# Altium schematic symbol library transistor-fet.SCHLIB: 100 symbols
Pins are listed as number, name and electrical type; pins without a type are passive.

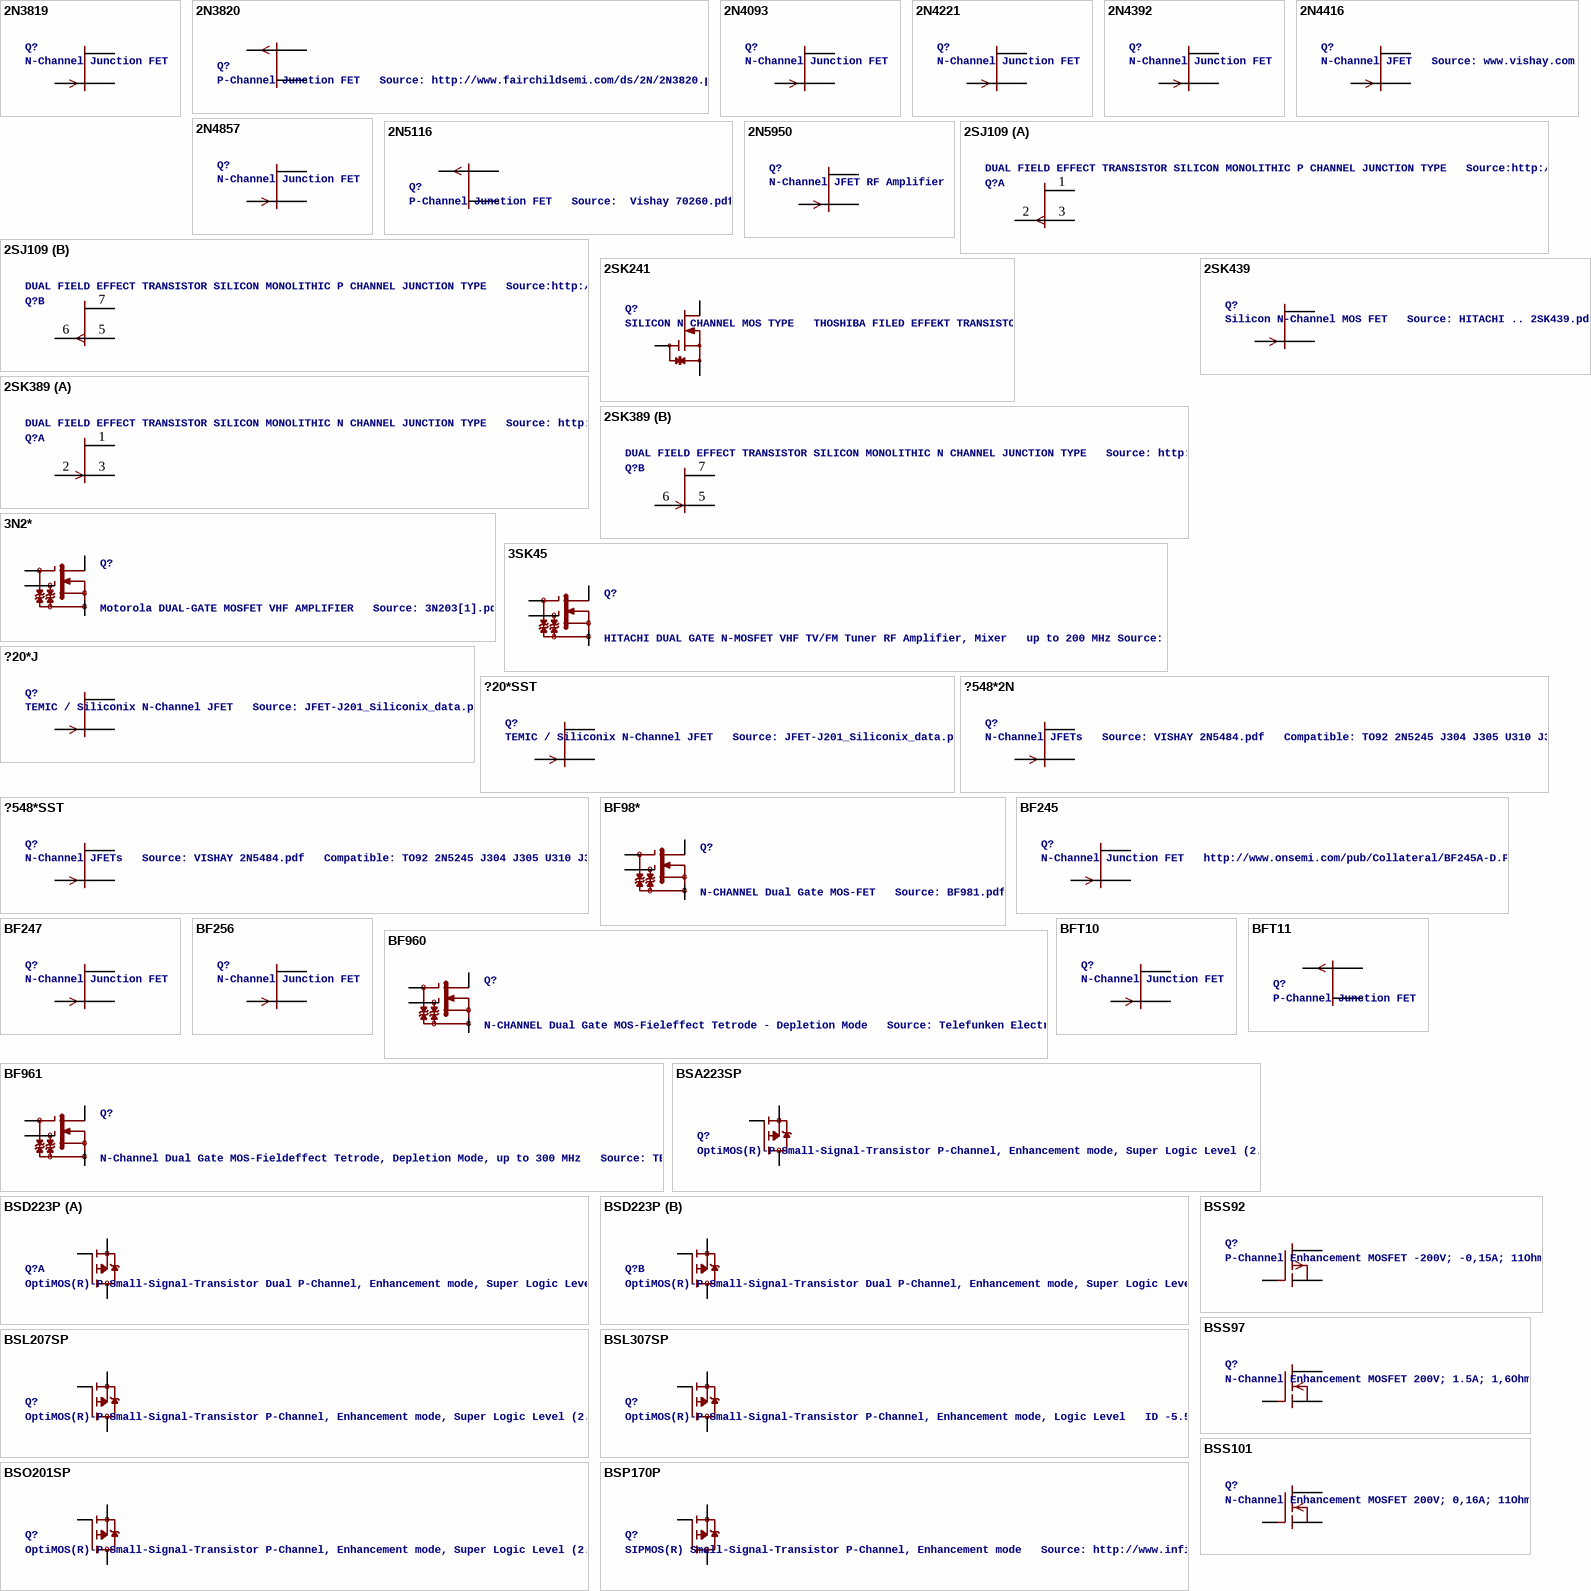
[diagram p0: symbols 2N3819 to BSS101]

## 2N3819
designator Q?, comment N-Channel Junction FET
footprint TO92
pins: 1 D, 2 G, 3 S

## 2N3820
designator Q?, comment P-Channel Junction FET   Source: http://www.fairchildsemi.com/ds/2N/2N3820.pdf
footprint TO92
pins: 1 S, 2 G, 3 D

## 2N4093
designator Q?, comment N-Channel Junction FET
footprint TO18
pins: 1 S, 2 D, 3 G

## 2N4221
designator Q?, comment N-Channel Junction FET
footprint TO72
pins: 1 D, 2 S, 3 G

## 2N4392
designator Q?, comment N-Channel Junction FET
footprint TO18
pins: 1 S, 2 D, 3 G

## 2N4416
designator Q?, comment N-Channel JFET   Source: www.vishay.com
footprint TO72
pins: 1 S, 2 D, 3 G

## 2N4857
designator Q?, comment N-Channel Junction FET
footprint TO18
pins: 1 S, 2 D, 3 G

## 2N5116
designator Q?, comment P-Channel Junction FET   Source:  Vishay 70260.pdf
footprint TO18
pins: 1 S, 2 G, 3 D

## 2N5950
designator Q?, comment N-Channel JFET RF Amplifier
footprint TO-92
pins: 1 G, 2 S, 3 D

## 2SJ109
designator Q?, comment DUAL FIELD EFFECT TRANSISTOR SILICON MONOLITHIC P CHANNEL JUNCTION TYPE   Source:http://www.datasheetcatalog.org/datasheets/270/201785_DS.pdf
footprint 2-10M1A
part A pins: 1 D, 2 G, 3 S
part B pins: 5 S, 6 G, 7 D

## 2SK241
designator Q?, comment SILICON N CHANNEL MOS TYPE   THOSHIBA FILED EFFEKT TRANSISTOR
footprint 2SK241
pins: 1 D, 2 S, 3 G

## 2SK389
designator Q?, comment DUAL FIELD EFFECT TRANSISTOR SILICON MONOLITHIC N CHANNEL JUNCTION TYPE   Source: http://pdf1.alldatasheet.com/datasheet-pdf/view/30769/TOSHIBA/2SK389.html
footprint 2-10M1A
part A pins: 1 D, 2 G, 3 S
part B pins: 5 S, 6 G, 7 D

## 2SK439
designator Q?, comment Silicon N-Channel MOS FET   Source: HITACHI .. 2SK439.pdf
footprint SPAK
pins: 1 G, 2 S, 3 D

## 3N2*
designator Q?, comment Motorola DUAL-GATE MOSFET VHF AMPLIFIER   Source: 3N203[1].pdf
footprint TO72
pins: 1 DRAIN, 2 G2, 3 G1, 4 SOURCE

## 3SK45
designator Q?, comment HITACHI DUAL GATE N-MOSFET VHF TV/FM Tuner RF Amplifier, Mixer   up to 200 MHz Source: 3SK45.pdf
footprint TO72
pins: 1 DRAIN, 2 G2, 3 G1, 4 SOURCE

## ?20*J
designator Q?, comment TEMIC / Siliconix N-Channel JFET   Source: JFET-J201_Siliconix_data.pdf
footprint TO92
pins: 1 G, 2 S, 3 D

## ?20*SST
designator Q?, comment TEMIC / Siliconix N-Channel JFET   Source: JFET-J201_Siliconix_data.pdf
footprint SOT23
pins: 1 D, 2 S, 3 G

## ?548*2N
designator Q?, comment N-Channel JFETs   Source: VISHAY 2N5484.pdf   Compatible: TO92 2N5245 J304 J305 U310 J308 J309 J310 TO72 2N4416 2N4416A 2N3823 2N4351 3N169 3N170 3N171 MFE3002 TO18 2N3796 2N3797 MFE825 Source: Motorola European Master Guide Pacge 3-59
footprint TO92-
pins: 1 G, 2 S, 3 D

## ?548*SST
designator Q?, comment N-Channel JFETs   Source: VISHAY 2N5484.pdf   Compatible: TO92 2N5245 J304 J305 U310 J308 J309 J310 TO72 2N4416 2N4416A 2N3823 2N4351 3N169 3N170 3N171 MFE3002 TO18 2N3796 2N3797 MFE825 Source: Motorola European Master Guide Pacge 3-59
footprint SOT23
pins: 1 D, 2 S, 3 G

## BF98*
designator Q?, comment N-CHANNEL Dual Gate MOS-FET   Source: BF981.pdf
footprint SOT103
pins: 1-S SOURCE, 2-D DRAIN, 3-G2 G2, 4-G1 G1

## BF245
designator Q?, comment N-Channel Junction FET   http://www.onsemi.com/pub/Collateral/BF245A-D.PDF
footprint TO92
pins: 1 D, 2 S, 3 G

## BF247
designator Q?, comment N-Channel Junction FET
footprint TO92
pins: 1 D, 2 S, 3 G

## BF256
designator Q?, comment N-Channel Junction FET
footprint TO92
pins: 1 D, 2 S, 3 G

## BF960
designator Q?, comment N-CHANNEL Dual Gate MOS-Fieleffect Tetrode - Depletion Mode   Source: Telefunken Electronic BF960.pdf
footprint TO50
pins: 1-D DRAIN, 2-S SOURCE, 3-G1 G1, 4-G2 G2

## BF961
designator Q?, comment N-Channel Dual Gate MOS-Fieldeffect Tetrode, Depletion Mode, up to 300 MHz   Source: TEMIC Semiconductors - BF691.pdf
footprint TO50
pins: 1-D DRAIN, 2-S SOURCE, 3-G1 G1, 4-G2 G2

## BFT10
designator Q?, comment N-Channel Junction FET
footprint TO92
pins: 1 D, 2 S, 3 G

## BFT11
designator Q?, comment P-Channel Junction FET
footprint TO92
pins: 1 D, 2 S, 3 G

## BSA223SP
designator Q?, comment OptiMOS(R)-P Small-Signal-Transistor P-Channel, Enhancement mode, Super Logic Level (2.5 V rated)   Source: http://www.infineon.com/upload/Document/BSA223SP_Rev1.3.pdf
footprint SC75_INFINEON
pins: 1 G, 2 D, 3 S

## BSD223P
designator Q?, comment OptiMOS(R)-P Small-Signal-Transistor Dual P-Channel, Enhancement mode, Super Logic Level (2.5 V rated)   Source: http://www.infineon.com/upload/Document/BSD223P_Rev1.3.pdf
footprint SOT363_INFINEON
part A pins: 1 S, 2 G, 6 D
part B pins: 3 D, 4 S, 5 G

## BSL207SP
designator Q?, comment OptiMOS(R)-P Small-Signal-Transistor P-Channel, Enhancement mode, Super Logic Level (2.5 V rated)   Source: http://www.infineon.com/upload/Document/BSL207SP_Rev2.01.pdf
footprint SC74_INFINEON
pins: 1 2 5 6 D, 3 G, 4 S

## BSL307SP
designator Q?, comment OptiMOS(R)-P Small-Signal-Transistor P-Channel, Enhancement mode, Logic Level   ID -5.5 A Source: http://www.infineon.com/upload/Document/BSL307SP_Rev%201.2.pdf
footprint SC74_INFINEON
pins: 1 2 5 6 D, 3 G, 4 S

## BSO201SP
designator Q?, comment OptiMOS(R)-P Small-Signal-Transistor P-Channel, Enhancement mode, Super Logic Level (2.5 V rated)   RDS(on) 8mOhm, ID -14.9 a Source: http://www.infineon.com/upload/Document/cmc_upload/documents/011/3655/BSO201SP_211201.pdf
footprint SO-8
pins: 1 2 3 S, 4 G, 5 6 7 8 D

## BSP170P
designator Q?, comment SIPMOS(R) Small-Signal-Transistor P-Channel, Enhancement mode   Source: http://www.infineon.com/upload/Document/BSP170P_Rev2.4.pdf
footprint SOT223
pins: 1 G, 2 4 D, 3 S

## BSS92
designator Q?, comment P-Channel Enhancement MOSFET -200V; -0,15A; 11Ohm
footprint TO92
pins: 1 G, 2 D, 3 S

## BSS97
designator Q?, comment N-Channel Enhancement MOSFET 200V; 1.5A; 1,6Ohm
footprint TO202
pins: 1 S, 2 D, 3 G

## BSS101
designator Q?, comment N-Channel Enhancement MOSFET 200V; 0,16A; 11Ohm
footprint TO92
pins: 1 S, 2 G, 3 D

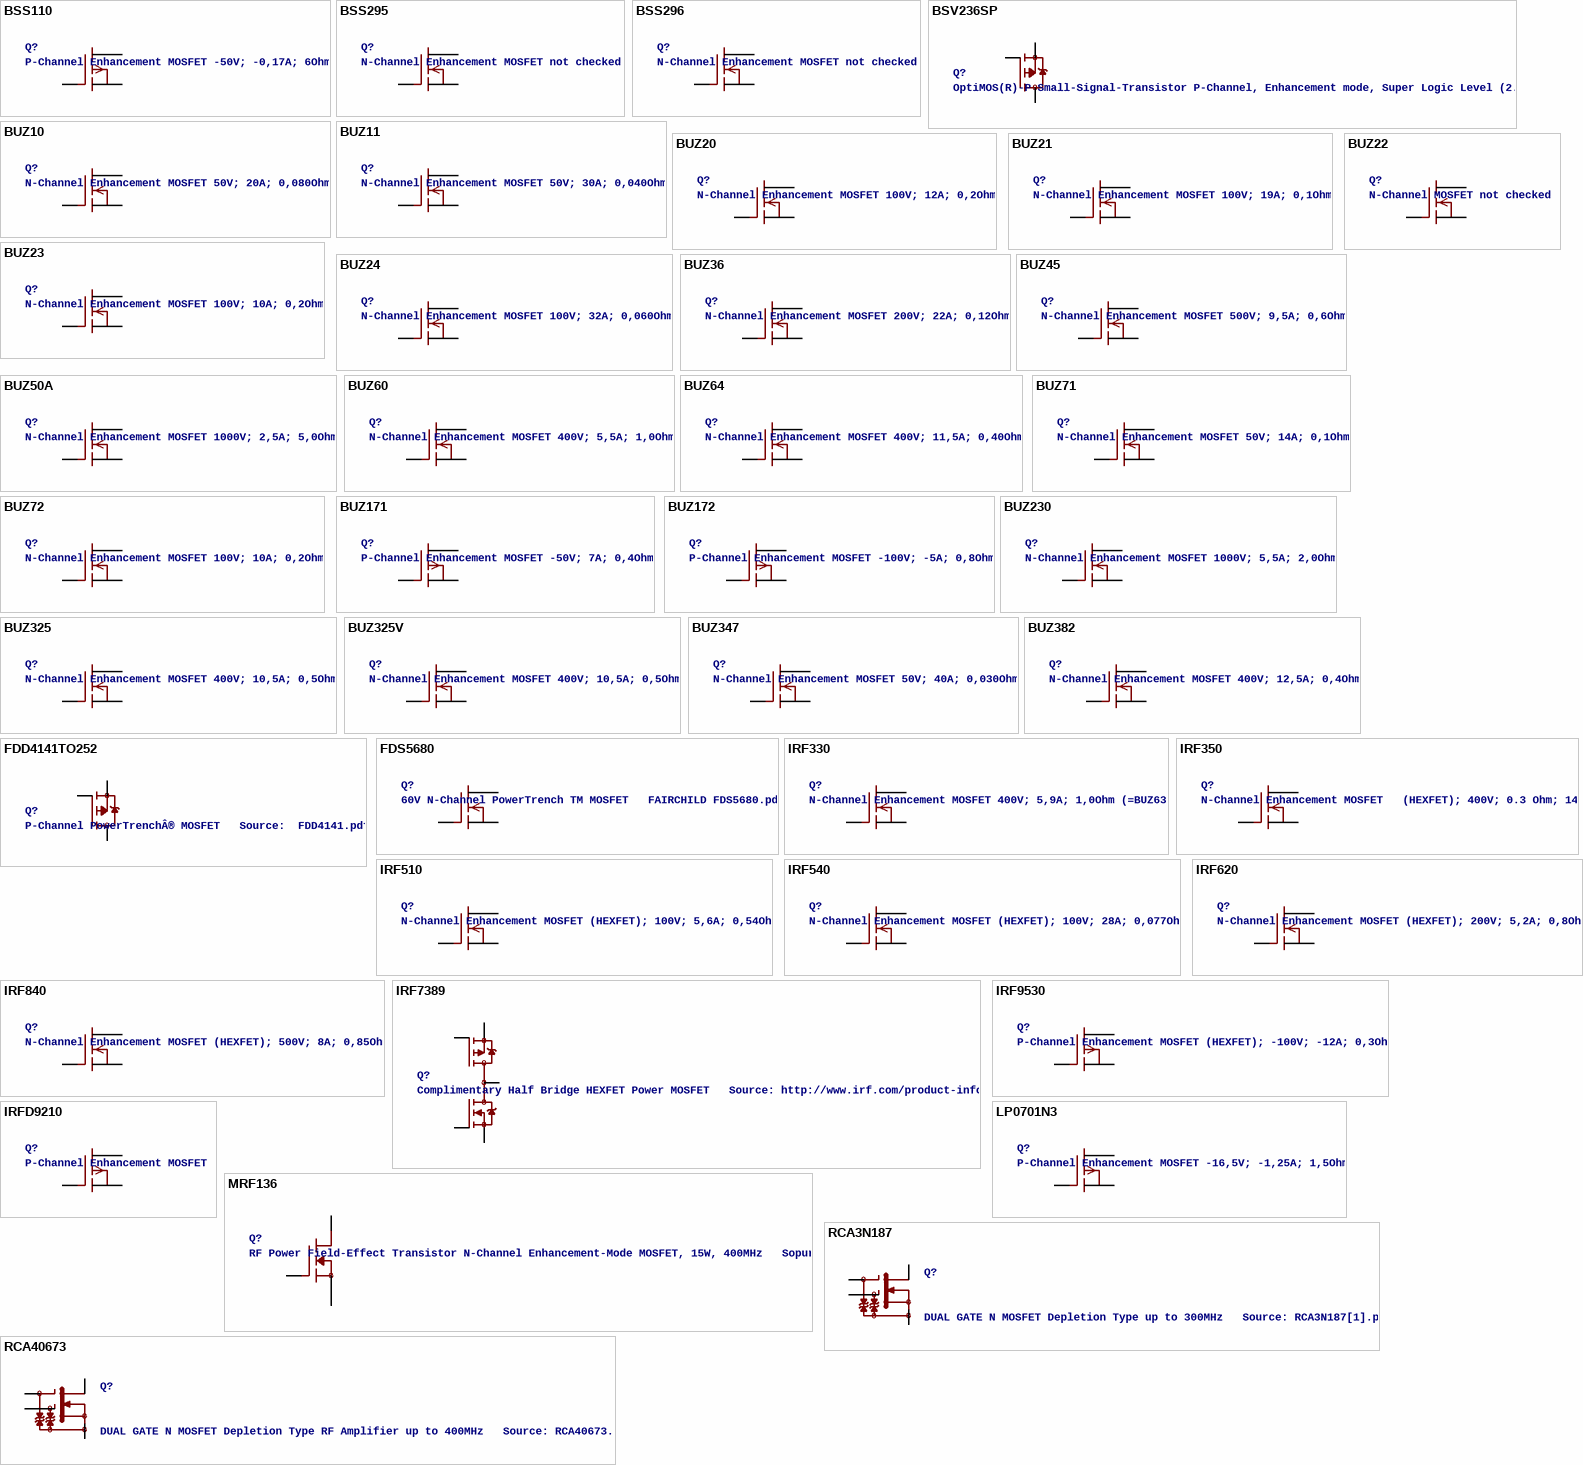
[diagram p1: symbols BSS110 to RCA40673]

## BSS110
designator Q?, comment P-Channel Enhancement MOSFET -50V; -0,17A; 6Ohm
footprint TO92
pins: 1 S, 2 G, 3 D

## BSS295
designator Q?, comment N-Channel Enhancement MOSFET not checked
footprint TO92
pins: 1 G, 2 D, 3 S

## BSS296
designator Q?, comment N-Channel Enhancement MOSFET not checked
footprint TO92
pins: 1 G, 2 D, 3 S

## BSV236SP
designator Q?, comment OptiMOS(R)-P Small-Signal-Transistor P-Channel, Enhancement mode, Super Logic Level (2.5 V rated)   Source: http://www.infineon.com/upload/Document/BSV236SP_Rev1.3.pdf
footprint SOT363_INFINEON
pins: 1 2 5 6 D, 3 G, 4 S

## BUZ10
designator Q?, comment N-Channel Enhancement MOSFET 50V; 20A; 0,080Ohm
footprint TO220
pins: 1 G, 2 D, 3 S

## BUZ11
designator Q?, comment N-Channel Enhancement MOSFET 50V; 30A; 0,040Ohm
footprint TO220
pins: 1 G, 2 D, 3 S

## BUZ20
designator Q?, comment N-Channel Enhancement MOSFET 100V; 12A; 0,2Ohm
footprint TO220
pins: 1 G, 2 D, 3 S

## BUZ21
designator Q?, comment N-Channel Enhancement MOSFET 100V; 19A; 0,1Ohm
footprint TO220
pins: 1 G, 2 D, 3 S

## BUZ22
designator Q?, comment N-Channel MOSFET not checked
footprint TO220
pins: 1 G, 2 D, 3 S

## BUZ23
designator Q?, comment N-Channel Enhancement MOSFET 100V; 10A; 0,2Ohm
footprint TO3
pins: 1 S, 2 G, 3 4 D

## BUZ24
designator Q?, comment N-Channel Enhancement MOSFET 100V; 32A; 0,060Ohm
footprint TO3
pins: 1 S, 2 G, 3 4 D

## BUZ36
designator Q?, comment N-Channel Enhancement MOSFET 200V; 22A; 0,12Ohm
footprint TO3
pins: 1 S, 2 G, 3 4 D

## BUZ45
designator Q?, comment N-Channel Enhancement MOSFET 500V; 9,5A; 0,6Ohm
footprint TO3
pins: 1 S, 2 G, 3 4 D

## BUZ50A
designator Q?, comment N-Channel Enhancement MOSFET 1000V; 2,5A; 5,0Ohm
footprint TO220
pins: 1 G, 2 D, 3 S

## BUZ60
designator Q?, comment N-Channel Enhancement MOSFET 400V; 5,5A; 1,0Ohm
footprint TO220
pins: 1 G, 2 D, 3 S

## BUZ64
designator Q?, comment N-Channel Enhancement MOSFET 400V; 11,5A; 0,40Ohm
footprint TO3
pins: 1 S, 2 G, 3 4 D

## BUZ71
designator Q?, comment N-Channel Enhancement MOSFET 50V; 14A; 0,1Ohm
footprint TO220
pins: 1 G, 2 D, 3 S

## BUZ72
designator Q?, comment N-Channel Enhancement MOSFET 100V; 10A; 0,2Ohm
footprint TO220
pins: 1 G, 2 D, 3 S

## BUZ171
designator Q?, comment P-Channel Enhancement MOSFET -50V; 7A; 0,4Ohm
footprint TO220
pins: 1 G, 2 D, 3 S

## BUZ172
designator Q?, comment P-Channel Enhancement MOSFET -100V; -5A; 0,8Ohm
footprint TO220
pins: 1 G, 2 D, 3 S

## BUZ230
designator Q?, comment N-Channel Enhancement MOSFET 1000V; 5,5A; 2,0Ohm
footprint TO3
pins: 1 S, 2 G, 3 4 D

## BUZ325
designator Q?, comment N-Channel Enhancement MOSFET 400V; 10,5A; 0,5Ohm
footprint TO218
pins: 1 G, 2 D, 3 S

## BUZ325V
designator Q?, comment N-Channel Enhancement MOSFET 400V; 10,5A; 0,5Ohm
footprint TO218V
pins: 1 G, 2 D, 3 S

## BUZ347
designator Q?, comment N-Channel Enhancement MOSFET 50V; 40A; 0,030Ohm
footprint TOP3
pins: 1 G, 2 D, 3 S

## BUZ382
designator Q?, comment N-Channel Enhancement MOSFET 400V; 12,5A; 0,4Ohm
footprint TOP3
pins: 1 G, 2 D, 3 S

## FDD4141TO252
designator Q?, comment P-Channel PowerTrenchÂ® MOSFET   Source:  FDD4141.pdf
footprint TO252
pins: 1 G, 2 S, 3 D

## FDS5680
designator Q?, comment 60V N-Channel PowerTrench TM MOSFET   FAIRCHILD FDS5680.pdf
footprint SO-8
pins: 1 2 3 S, 4 G, 5 6 7 8 D

## IRF330
designator Q?, comment N-Channel Enhancement MOSFET 400V; 5,9A; 1,0Ohm (=BUZ63)
footprint TO3
pins: 1 S, 2 G, 3 4 D

## IRF350
designator Q?, comment N-Channel Enhancement MOSFET   (HEXFET); 400V; 0.3 Ohm; 14A
footprint TO3
pins: 1 S, 2 G, 3 4 D

## IRF510
designator Q?, comment N-Channel Enhancement MOSFET (HEXFET); 100V; 5,6A; 0,54Ohm
footprint TO220
pins: 1 G, 2 D, 3 S

## IRF540
designator Q?, comment N-Channel Enhancement MOSFET (HEXFET); 100V; 28A; 0,077Ohm
footprint TO220
pins: 1 G, 2 D, 3 S

## IRF620
designator Q?, comment N-Channel Enhancement MOSFET (HEXFET); 200V; 5,2A; 0,8Ohm
footprint TO220
pins: 1 G, 2 D, 3 S

## IRF840
designator Q?, comment N-Channel Enhancement MOSFET (HEXFET); 500V; 8A; 0,85Ohm
footprint TO220
pins: 1 G, 2 D, 3 S

## IRF7389
designator Q?, comment Complimentary Half Bridge HEXFET Power MOSFET   Source: http://www.irf.com/product-info/datasheets/data/irf7389.pdf
footprint SO08-IRF
pins: 1 N-S, 2 N-G, 3 P-S, 4 P-G, 5 6 7 8 D

## IRF9530
designator Q?, comment P-Channel Enhancement MOSFET (HEXFET); -100V; -12A; 0,3Ohm
footprint TO220
pins: 1 G, 2 D, 3 S

## IRFD9210
designator Q?, comment P-Channel Enhancement MOSFET
footprint DIL04
pins: 1 G, 2 S, 3 4 D

## LP0701N3
designator Q?, comment P-Channel Enhancement MOSFET -16,5V; -1,25A; 1,5Ohm
footprint TO-92
pins: 1 S, 2 G, 3 D

## MRF136
designator Q?, comment RF Power Field-Effect Transistor N-Channel Enhancement-Mode MOSFET, 15W, 400MHz   Sopurce: http://www.macom.com/data/datasheet/MRF136.pdf
footprint 211-07_SMD
pins: 1 3 S, 2 G, 4 D

## RCA3N187
designator Q?, comment DUAL GATE N MOSFET Depletion Type up to 300MHz   Source: RCA3N187[1].pdf
footprint TO72
pins: 1 DRAIN, 2 G2, 3 G1, 4 SOURCE

## RCA40673
designator Q?, comment DUAL GATE N MOSFET Depletion Type RF Amplifier up to 400MHz   Source: RCA40673.pdf
footprint TO72
pins: 1 DRAIN, 2 G2, 3 G1, 4 SOURCE

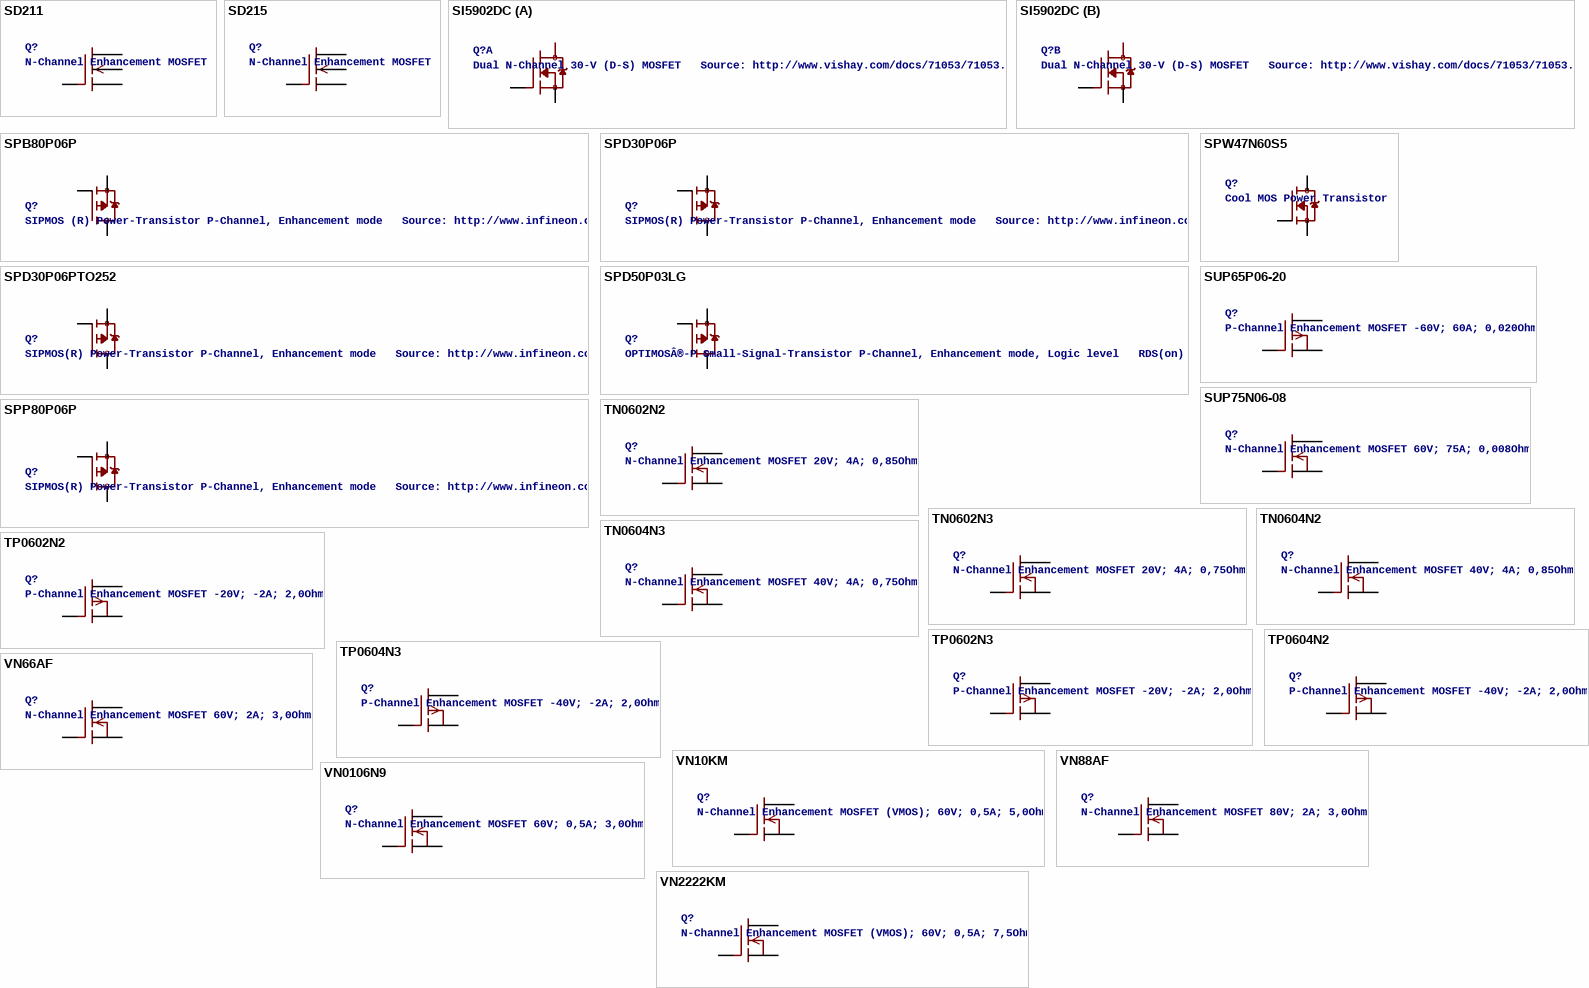
[diagram p2: symbols SD211 to VN2222KM]

## SD211
designator Q?, comment N-Channel Enhancement MOSFET
footprint TO72
pins: 1 S, 2 D, 3 G, 4 B

## SD215
designator Q?, comment N-Channel Enhancement MOSFET
footprint TO72
pins: 1 S, 2 D, 3 G, 4 B

## SI5902DC
designator Q?, comment Dual N-Channel 30-V (D-S) MOSFET   Source: http://www.vishay.com/docs/71053/71053.pdf
footprint 1206-8CHIP-FET
part A pins: 1 S, 2 G, 7 8 D
part B pins: 3 S, 4 G, 5 6 D

## SPB80P06P
designator Q?, comment SIPMOS (R) Power-Transistor P-Channel, Enhancement mode   Source: http://www.infineon.com/upload/Document/cmc_upload/documents/011/3685/SPP80P06P.pdf
footprint TO263
pins: 1 G, 2 S, 3 D

## SPD30P06P
designator Q?, comment SIPMOS(R) Power-Transistor P-Channel, Enhancement mode   Source: http://www.infineon.com/upload/Document/cmc_upload/documents/012/3615/SPD_U30P06P.pdf
footprint TO251AA
pins: 1 G, 2 D, 3 S

## SPD30P06PTO252
designator Q?, comment SIPMOS(R) Power-Transistor P-Channel, Enhancement mode   Source: http://www.infineon.com/upload/Document/cmc_upload/documents/012/3615/SPD_U30P06P.pdf
footprint TO252
pins: 1 G, 2 S, 3 D

## SPD50P03LG
designator Q?, comment OPTIMOSÂ®-P Small-Signal-Transistor P-Channel, Enhancement mode, Logic level   RDS(on) 7 mOhm, ID -50A Source: http://www.infineon.com/upload/Document/SPD50P03L%20G_Rev1.5.pdf
footprint TO252-51
pins: 1 G, 3 4 S, 5 D

## SPP80P06P
designator Q?, comment SIPMOS(R) Power-Transistor P-Channel, Enhancement mode   Source: http://www.infineon.com/upload/Document/cmc_upload/documents/012/3619/SPP80P06P.pdf
footprint TO220
pins: 1 G, 2 D, 3 S

## SPW47N60S5
designator Q?, comment Cool MOS Power Transistor
footprint P-TO247
pins: 1 G, 2 D, 3 S

## SUP65P06-20
designator Q?, comment P-Channel Enhancement MOSFET -60V; 60A; 0,020Ohm
footprint TO220
pins: 1 G, 2 D, 3 S

## SUP75N06-08
designator Q?, comment N-Channel Enhancement MOSFET 60V; 75A; 0,008Ohm
footprint TO220
pins: 1 G, 2 D, 3 S

## TN0602N2
designator Q?, comment N-Channel Enhancement MOSFET 20V; 4A; 0,85Ohm
footprint TO-39
pins: 1 S, 2 G, 3 D

## TN0602N3
designator Q?, comment N-Channel Enhancement MOSFET 20V; 4A; 0,75Ohm
footprint TO-92
pins: 1 S, 2 G, 3 D

## TN0604N2
designator Q?, comment N-Channel Enhancement MOSFET 40V; 4A; 0,85Ohm
footprint TO-39
pins: 1 S, 2 G, 3 D

## TN0604N3
designator Q?, comment N-Channel Enhancement MOSFET 40V; 4A; 0,75Ohm
footprint TO-92
pins: 1 S, 2 G, 3 D

## TP0602N2
designator Q?, comment P-Channel Enhancement MOSFET -20V; -2A; 2,0Ohm
footprint TO-39
pins: 1 S, 2 G, 3 D

## TP0602N3
designator Q?, comment P-Channel Enhancement MOSFET -20V; -2A; 2,0Ohm
footprint TO-92
pins: 1 S, 2 G, 3 D

## TP0604N2
designator Q?, comment P-Channel Enhancement MOSFET -40V; -2A; 2,0Ohm
footprint TO-39
pins: 1 S, 2 G, 3 D

## TP0604N3
designator Q?, comment P-Channel Enhancement MOSFET -40V; -2A; 2,0Ohm
footprint TO-92
pins: 1 S, 2 G, 3 D

## VN10KM
designator Q?, comment N-Channel Enhancement MOSFET (VMOS); 60V; 0,5A; 5,0Ohm
footprint TO237
pins: 1 D, 2 G, 3 S

## VN66AF
designator Q?, comment N-Channel Enhancement MOSFET 60V; 2A; 3,0Ohm
footprint TO202
pins: 1 S, 2 G, 3 D

## VN88AF
designator Q?, comment N-Channel Enhancement MOSFET 80V; 2A; 3,0Ohm
footprint TO202
pins: 1 S, 2 G, 3 D

## VN0106N9
designator Q?, comment N-Channel Enhancement MOSFET 60V; 0,5A; 3,0Ohm
footprint TO-52
pins: 1 S, 2 G, 3 D

## VN2222KM
designator Q?, comment N-Channel Enhancement MOSFET (VMOS); 60V; 0,5A; 7,5Ohm
footprint TO237
pins: 1 D, 2 G, 3 S